# Altium schematic symbol library SCH - DIODES - TVS BI - DUAL_CDSOT23.SCHLIB: 1 symbol
Pins are listed as number, name and electrical type; pins without a type are passive.

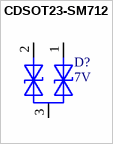
[diagram p0: symbol CDSOT23-SM712]

## CDSOT23-SM712
designator D?, comment 7V
Diode, TVS, Bi, 7V, Dual; Manufacturer: Bourns; Manufacturer Part Number: CDSOT23-SM712; Polarity: Bidirectional; Category: tvs; Package: SOT-23; Supplier 1: Mouser; Supplier Part Number 1: 652-CDSOT23-SM712; Mounting Style: SMT; Pins: 3; Voltage: 7V; Created: 2020_09_21_MGremer
footprint SOT95P230X117-3N
pins: 1 K1, 2 K2, 3 A